# EAGLE library part AS-ITM-00048 (library tinycircuits)
IC VOLT-LEVEL TRANSLATOR 12UQFN
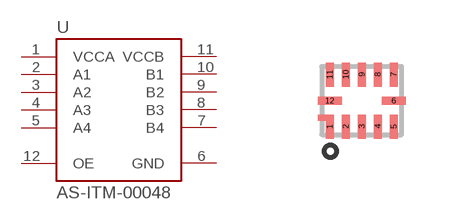
[diagram p15: symbol with the pads of UQFN-12; footprint UQFN-12]

Designator prefix U

## AS-ITM-00048 (PARTNO: AS-ITM-00048; PNPROTATION: 0; VALUE: TXB0104)  [UQFN-12]
1  VCCA
2  A1
3  A2
4  A3
5  A4
6  GND
7  B4
8  B3
9  B2
10  B1
11  VCCB
12  OE

## Footprint UQFN-12 (pad centres in mm)
smd 0.2 x 0.6: 1 -0.8,-0.65; 2 -0.4,-0.65; 3 0,-0.65; 4 0.4,-0.65; 5 0.8,-0.65; 7 0.8,0.65; 8 0.4,0.65; 9 0,0.65; 10 -0.4,0.65; 11 -0.8,0.65
smd 0.6 x 0.2: 6 0.8,0; 12 -0.8,0